# Altium schematic symbol library Transistors.SchLib: 23 symbols
Pins are listed as number, name and electrical type; pins without a type are passive.

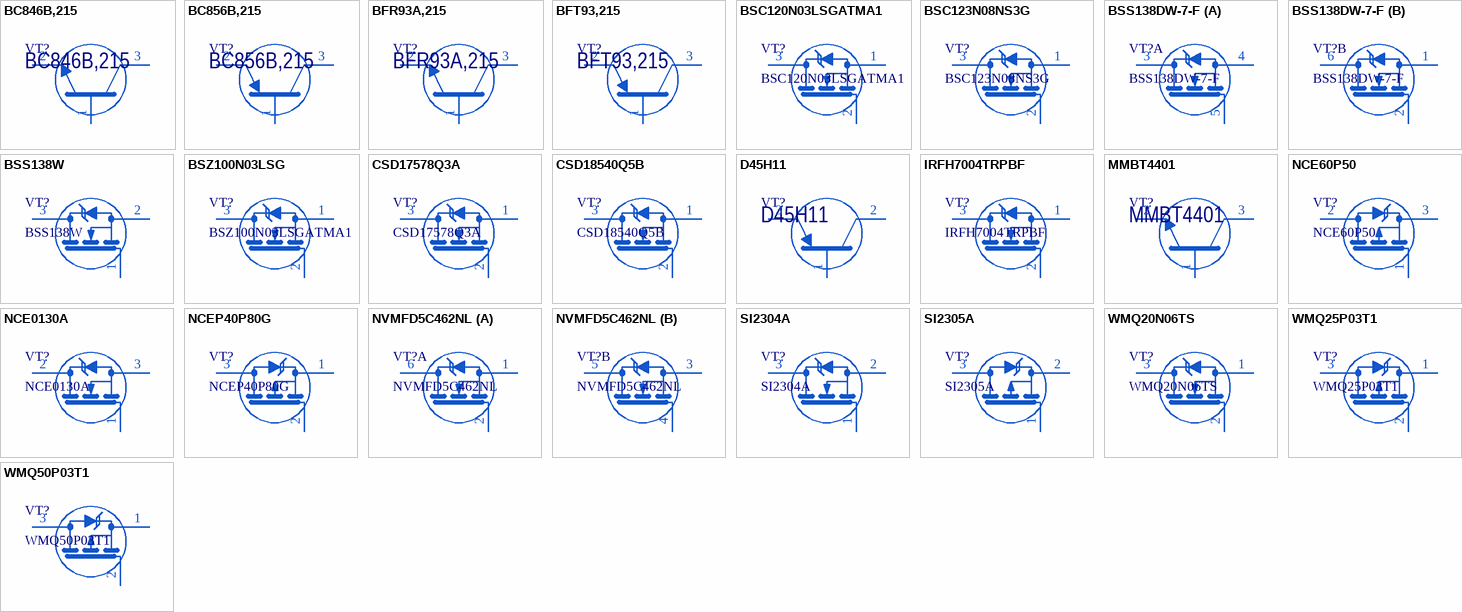
[diagram p0: symbols BC846B,215 to WMQ50P03T1]

## BC846B,215
designator VT?
General Purpose n-p-n Transistors; Manufacturer: Nexperia USA Inc.; AltManufacturer1: КРЕМНИЙ ЭЛ; Alternative1: КТ230A9; Marking: 1B; ItemSubType: NPN; Package: SOT23-3; PartNumber: BC846B,215; ItemType: Transistor; Mounting: SMD
footprint SOT23_TO236AB (TO236AB (SOT23-3), 3-Leads, Body 1.30x2.90mm, Pitch 0.95mm)
pins: 1 B, 2 E, 3 C

## BC856B,215
designator VT?
General Purpose p-n-p Transistors; Manufacturer: Nexperia USA Inc.; AltManufacturer1: КРЕМНИЙ ЭЛ; Alternative1: КТ233А9; Marking: 3B; ItemSubType: PNP; Package: SOT23-3; PartNumber: BC856B,215; ItemType: Transistor; Mounting: SMD
footprint SOT23_TO236AB (TO236AB (SOT23-3), 3-Leads, Body 1.30x2.90mm, Pitch 0.95mm)
pins: 1 B, 2 E, 3 C

## BFR93A,215
designator VT?
NPN 6 GHz wideband transistor; Manufacturer: Nexperia USA Inc.; Marking: R2p; Package: SOT23-3; PartNumber: BFR93A,215; ItemType: Transistor; ItemSubType: NPN; Mounting: SMD
footprint SOT23_TO236AB (TO236AB (SOT23-3), 3-Leads, Body 1.30x2.90mm, Pitch 0.95mm)
pins: 1 B, 2 E, 3 C

## BFT93,215
designator VT?
PNP 5 GHz wideband transistor; Manufacturer: Nexperia USA Inc.; Marking: X1p; Package: SOT23-3; PartNumber: BFT93,215; ItemType: Transistor; ItemSubType: PNP; Mounting: SMD
footprint SOT23_TO236AB (TO236AB (SOT23-3), 3-Leads, Body 1.30x2.90mm, Pitch 0.95mm)
pins: 1 B, 2 E, 3 C

## BSC120N03LSGATMA1
designator VT?
N-Channel MOSFET, 30V, 39A; Manufacturer: Infineon; ItemType: Transistor; ItemSubType: N-FET; PartNumber: BSC120N03LSGATMA1; Package: PG-TDSON-8; Mounting: SMD
footprint PG-TDSON-8 (Power 5mm x 6mm)
pins: 1 S, 2 G, 3 D

## BSC123N08NS3G
designator VT?
N-Channel MOSFET, 80V, 55A; Manufacturer: Infineon; ItemType: Transistor; ItemSubType: N-FET; PartNumber: BSC123N08NS3G; Package: DFN5X6-8L; Marking: 123N08NS; Mounting: SMD
footprint DFN5X6-8L (Power 5mm x 6mm)
pins: 1 S, 2 G, 3 D

## BSS138DW-7-F
designator VT?
Dual N-Channel Enhancement Mode Field Effect Transistors 50V @ 0.20A; Manufacturer: Diodes; AltManufacturer1: NXP; Alternative1: BSS138PS,115; Marking: K38; ItemSubType: N-FET; PartNumber: BSS138DW-7-F; Package: SOT-363; ItemType: Transistor; Mounting: SMD
footprint SOT363 (SOT363, 6-Leads, Body 1.25x2.00mm, Pitch 0.65mm)
part A pins: 3 D1, 4 S1, 5 G1
part B pins: 1 S2, 2 G2, 6 D2

## BSS138W
designator VT?
N-Channel Logic Level Enhancement Mode Field Effect Transistor 50V @ 0.21A; Manufacturer: ON Semiconductor; AltManufacturer1: SUNCOYJ; Marking: 138; ItemSubType: N-FET; PartNumber: BSS138W; Package: SC70-3; Alternative1: BSS138W; ItemType: Transistor; Mounting: SMD
footprint SOT323 (SOT323 (SC70-3), 3-Leads, Body 1.25x2.10mm, Pitch 0.65mm)
pins: 1 G, 2 S, 3 D

## BSZ100N03LSG
designator VT?, comment BSZ100N03LSGATMA1
N-Channel MOSFET, 30V, 44A; Manufacturer: Infineon; ItemType: Transistor; ItemSubType: N-FET; PartNumber: BSZ100N03LSGATMA1; Package: PG-TSDSON-8; Mounting: SMD
footprint PG-TSDSON-8 (Power 3.3mm x 3.3mm)
pins: 1 S, 2 G, 3 D

## CSD17578Q3A
designator VT?
N-Channel MOSFET, 30V, 20A; Manufacturer: Texas Instruments; Marking: 17578; ItemType: Transistor; ItemSubType: N-FET; PartNumber: CSD17578Q3A; Package: Q3A; Mounting: SMD
footprint Q3A_TI (Power 3mm x 3mm)
pins: 1 S, 2 G, 3 D

## CSD18540Q5B
designator VT?
N-Channel MOSFET, 60V, 100A; Manufacturer: Texas Instruments; ItemType: Transistor; ItemSubType: N-FET; PartNumber: CSD18540Q5B; Package: Q5B; Marking: CSD18540; Mounting: SMD
footprint Q5B_TI (Power 5mm x 6mm)
pins: 1 S, 2 G, 3 D

## D45H11
designator VT?
Power p-n-p Transistor; Manufacturer: STMicroelectronics; ItemSubType: PNP; Package: TO-220; PartNumber: D45H11; ItemType: Transistor; Mounting: THT
footprint TO220AB_VERTICAL (TO220AB, 3-Leads, Vertical Mounting)
footprint TO220AB_HORIZONTAL (TO220AB, 3-Leads, Horizontal Mounting)
footprint TO220AB_HORIZONTAL_With_Heatsink (TO220AB, 3-Leads, Horizontal Mounting, 1.4mm Gap for Heat Sink RUCHI 718)
pins: 1 B, 2 C, 3 E

## IRFH7004TRPBF
designator VT?
N-Channel MOSFET, 40V, 100A; Manufacturer: Infineon; Marking: 7004; ItemType: Transistor; ItemSubType: N-FET; PartNumber: IRFH7004TRPBF; Package: DFN5X6-8L; Mounting: SMD
footprint DFN5X6-8L (Power 5mm x 6mm)
pins: 1 S, 2 G, 3 D

## MMBT4401
designator VT?
General Purpose n-p-n Transistors; Manufacturer: ON Semiconductor; Marking: 2X; ItemSubType: NPN; Package: SOT23-3; PartNumber: MMBT4401; ItemType: Transistor; Mounting: SMD
footprint SOT23_TO236AB (TO236AB (SOT23-3), 3-Leads, Body 1.30x2.90mm, Pitch 0.95mm)
pins: 1 B, 2 E, 3 C

## NCE60P50
designator VT?
P-Channel MOSFET, -60V, -50A; Manufacturer: NCE Power; AltManufacturer1: Infineon; Alternative1: IRF4905PBF; ItemType: Transistor; ItemSubType: P-FET; PartNumber: NCE60P50; Package: TO-220AB; Mounting: THT
footprint TO220AB_VERTICAL (TO220AB, 3-Leads, Vertical Mounting)
footprint TO220AB_HORIZONTAL_With_Heatsink (TO220AB, 3-Leads, Horizontal Mounting, 1.4mm Gap for Heat Sink RUCHI 718)
footprint TO220AB_HORIZONTAL (TO220AB, 3-Leads, Horizontal Mounting)
pins: 1 G, 2 D, 3 S

## NCE0130A
designator VT?
N-Channel MOSFET, 100V, 30A; Manufacturer: NCE Power; ItemType: Transistor; ItemSubType: N-FET; PartNumber: NCE0130A; Package: TO-220AB; Mounting: THT
footprint TO220AB_VERTICAL (TO220AB, 3-Leads, Vertical Mounting)
footprint TO220AB_HORIZONTAL_With_Heatsink (TO220AB, 3-Leads, Horizontal Mounting, 1.4mm Gap for Heat Sink RUCHI 718)
footprint TO220AB_HORIZONTAL (TO220AB, 3-Leads, Horizontal Mounting)
pins: 1 G, 2 D, 3 S

## NCEP40P80G
designator VT?
P-Channel MOSFET, -40V, -80A; Manufacturer: NCE Power; ItemType: Transistor; ItemSubType: P-FET; PartNumber: NCEP40P80G; Package: DFN5X6-8L; Marking: P40P80G; Mounting: SMD
footprint DFN5X6-8L (Power 5mm x 6mm)
pins: 1 S, 2 G, 3 D

## NVMFD5C462NL
designator VT?
Dual N-Channel MOSFET, 40V, 84A; Manufacturer: ON Semiconductor; ItemType: Transistor; ItemSubType: N-FET; PartNumber: NVMFD5C462NL; Package: DFN 5x6 (Dual); Mounting: SMD
footprint DFN5X6-8L_DUAL_ONSEMI (DFN8 5x6, 1.27P Dual Flag, CASE 506BT)
part A pins: 1 S1, 2 G1, 6 D1
part B pins: 3 S2, 4 G2, 5 D

## SI2304A
designator VT?
N-Channel MOSFET, 30V, 3.6A; Manufacturer: UWM; Marking: A04; ItemType: Transistor; ItemSubType: N-FET; PartNumber: SI2304A; Package: SOT23-3; Mounting: SMD
footprint SOT23_TO236AB (TO236AB (SOT23-3), 3-Leads, Body 1.30x2.90mm, Pitch 0.95mm)
pins: 1 G, 2 S, 3 D

## SI2305A
designator VT?
P-Channel MOSFET, -20V, -4.2A; Manufacturer: UWM; AltManufacturer1: ON Semiconductor; Alternative1: NTR3A052PZT1G; Marking: A50T; ItemType: Transistor; ItemSubType: P-FET; PartNumber: SI2305A; Package: SOT23-3; Mounting: SMD
footprint SOT23_TO236AB (TO236AB (SOT23-3), 3-Leads, Body 1.30x2.90mm, Pitch 0.95mm)
pins: 1 G, 2 S, 3 D

## WMQ20N06TS
designator VT?
N-Channel MOSFET, 60V, 20A; Manufacturer: Wayon; AltManufacturer1: Alpha & Omega Semiconductor; Alternative1: AON7402; Marking: Q20N06; ItemType: Transistor; ItemSubType: N-FET; PartNumber: WMQ20N06TS; Package: PDFN8L3X3; Mounting: SMD
footprint PDFN8L3X3 (Power 3mm x 3mm)
pins: 1 S, 2 G, 3 D

## WMQ25P03T1
designator VT?
P-Channel MOSFET, -30V, -25A; Manufacturer: Wayon; AltManufacturer1: Alpha & Omega Semiconductor; Alternative1: AON7403; Marking: Q25P03; ItemType: Transistor; ItemSubType: P-FET; PartNumber: WMQ25P03T1; Package: PDFN8L3X3; Mounting: SMD
footprint PDFN8L3X3 (Power 3mm x 3mm)
pins: 1 S, 2 G, 3 D

## WMQ50P03T1
designator VT?
P-Channel MOSFET, -30V, -50A; Manufacturer: Wayon; Marking: Q50P03; ItemType: Transistor; ItemSubType: P-FET; PartNumber: WMQ50P03T1; Package: PDFN8L3X3; Mounting: SMD
footprint PDFN8L3X3 (Power 3mm x 3mm)
pins: 1 S, 2 G, 3 D